# Altium schematic symbol library uMote.SchLib: 19 symbols
Pins are listed as number, name and electrical type; pins without a type are passive.

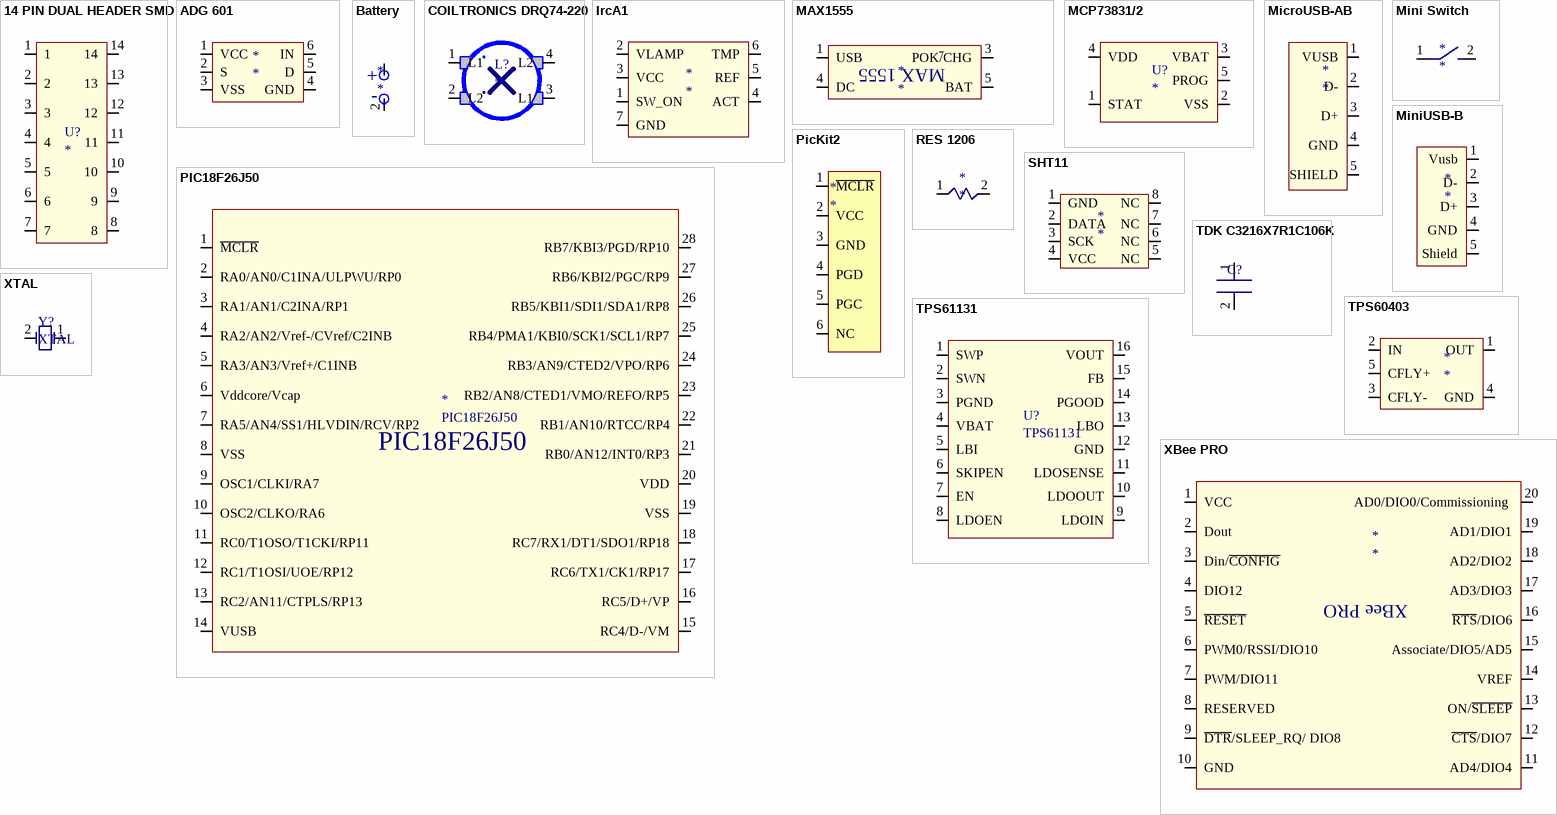
[diagram p0: symbols 14 PIN DUAL HEADER SMD to XTAL]

## 14 PIN DUAL HEADER SMD
designator U?
footprint 14 PIN DUAL HEADER
pins: 1, 2, 3, 4, 5, 6, 7, 8, 9, 10, 11, 12, 13, 14

## ADG 601
designator *
footprint SOT26A-6N (SOT23, 6-Leads, Body 2.9x1.7mm, Pitch 0.95mm, Lead Span 2.8mm, IPC Medium Density)
pins: 1 VCC, 2 S, 3 VSS, 4 GND, 5 D, 6 IN

## Battery
designator *
pins: 1, 2
text: +; -

## COILTRONICS DRQ74-220
designator L?
footprint DRQ-220
pins: 1 L1, 2 L2, 3 L1, 4 L2

## IrcA1
designator *
footprint IrcA1
pins: 1 SW_ON, 2 VLAMP, 3 VCC, 4 ACT, 5 REF, 6 TMP, 7 GND

## MAX1555
designator *
pins: 1 USB, 2 GND hidden to GND, 3 POK~{/}CHG, 4 DC, 5 BAT
text: MAX 1555

## MCP73831/2
designator U?
footprint MCP73831
pins: 1 STAT, 2 VSS, 3 VBAT, 4 VDD, 5 PROG

## MicroUSB-AB
designator *
footprint MICRO USB
pins: 1 VUSB, 2 D-, 3 D+, 4 GND, 5 SHIELD

## Mini Switch
designator *
footprint Mini Switch
pins: 1, 2

## MiniUSB-B
designator *
footprint MINI USB
pins: 1 Vusb, 2 D-, 3 D+, 4 GND, 5 Shield

## PIC18F26J50
designator *
footprint PIC18F-SOIC
pins: 1 ~{MCLR} (in), 2 RA0/AN0/C1INA/ULPWU/RP0, 3 RA1/AN1/C2INA/RP1, 4 RA2/AN2/Vref-/CVref/C2INB, 5 RA3/AN3/Vref+/C1INB, 6 Vddcore/Vcap, 7 RA5/AN4/SS1/HLVDIN/RCV/RP2, 8 VSS, 9 OSC1/CLKI/RA7, 10 OSC2/CLKO/RA6, 11 RC0/T1OSO/T1CKI/RP11, 12 RC1/T1OSI/UOE/RP12, 13 RC2/AN11/CTPLS/RP13, 14 VUSB, 15 RC4/D-/VM, 16 RC5/D+/VP, 17 RC6/TX1/CK1/RP17, 18 RC7/RX1/DT1/SDO1/RP18, 19 VSS, 20 VDD, 21 RB0/AN12/INT0/RP3, 22 RB1/AN10/RTCC/RP4, 23 RB2/AN8/CTED1/VMO/REFO/RP5, 24 RB3/AN9/CTED2/VPO/RP6, 25 RB4/PMA1/KBI0/SCK1/SCL1/RP7, 26 RB5/KBI1/SDI1/SDA1/RP8, 27 RB6/KBI2/PGC/RP9, 28 RB7/KBI3/PGD/RP10

## PicKit2
designator *
footprint PICKIT3
pins: 1 ~{MCLR}, 2 VCC, 3 GND, 4 PGD, 5 PGC, 6 NC

## RES 1206
designator *
footprint EIA 1206
pins: 1, 2

## SHT11
designator *
footprint SHT11
pins: 1 GND, 2 DATA, 3 SCK, 4 VCC, 5 NC, 6 NC, 7 NC, 8 NC

## TDK C3216X7R1C106K
designator C?, comment TDK  (value not drawn)
footprint Capacitor EIA 1206
pins: 1, 2

## TPS60403
designator *
footprint SOT23-5AL (SOT23, 5-Leads, Body 2.9x1.6mm, Pitch 0.95mm, Lead Span 2.8mm, IPC High Density)
pins: 1 OUT, 2 IN, 3 CFLY-, 4 GND, 5 CFLY+

## TPS61131
designator U?
footprint TPS61131
pins: 1 SWP, 2 SWN, 3 PGND, 4 VBAT, 5 LBI, 6 SKIPEN, 7 EN, 8 LDOEN, 9 LDOIN, 10 LDOOUT, 11 LDOSENSE, 12 GND, 13 LBO, 14 PGOOD, 15 FB, 16 VOUT

## XBee PRO
designator *
footprint XBEE PRO SMD
pins: 1 VCC, 2 Dout, 3 Din/~{CONFIG}, 4 DIO12, 5 ~{RESET}, 6 PWM0/RSSI/DIO10, 7 PWM/DIO11, 8 RESERVED, 9 ~{DTR}/SLEEP_RQ/ DIO8, 10 GND, 11 AD4/DIO4, 12 ~{CTS}/DIO7, 13 ON/~{SLEEP}, 14 VREF, 15 Associate/DIO5/AD5, 16 ~{RTS}/DIO6, 17 AD3/DIO3, 18 AD2/DIO2, 19 AD1/DIO1, 20 AD0/DIO0/Commissioning 

## XTAL
designator Y?
pins: 1 +, 2 -